# EAGLE library part CAN_SENSOR_V3 (library andereBauteile)
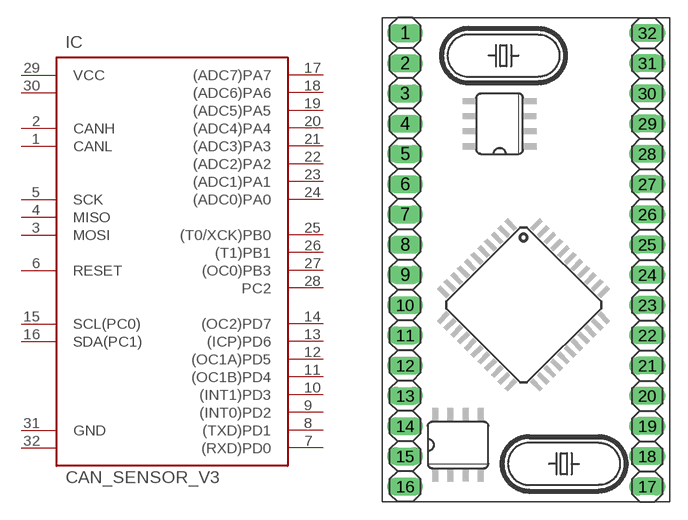
[diagram p40: symbol with the pads of CAN_SENSOR_V3; footprint CAN_SENSOR_V3]

Designator prefix IC

## CAN_SENSOR_V3  [CAN_SENSOR_V3]
1  CANL
2  CANH
3  MOSI  out
4  MISO  in
5  SCK  out
6  RESET
7  (RXD)PD0
8  (TXD)PD1
9  (INT0)PD2
10  (INT1)PD3
11  (OC1B)PD4
12  (OC1A)PD5
13  (ICP)PD6
14  (OC2)PD7
15  SCL(PC0)
16  SDA(PC1)
17  (ADC7)PA7
18  (ADC6)PA6
19  (ADC5)PA5
20  (ADC4)PA4
21  (ADC3)PA3
22  (ADC2)PA2
23  (ADC1)PA1
24  (ADC0)PA0
25  (T0/XCK)PB0
26  (T1)PB1
27  (OC0)PB3
28  PC2
29  VCC  pwr
30  VCC  pwr
31  GND  pwr
32  GND  pwr

## Footprint CAN_SENSOR_V3 (pad centres in mm)
drill 1.016 long: 1 -10.16,19.05; 2 -10.16,16.51; 3 -10.16,13.97; 4 -10.16,11.43; 5 -10.16,8.89; 6 -10.16,6.35; 7 -10.16,3.81; 8 -10.16,1.27; 9 -10.16,-1.27; 10 -10.16,-3.81; 11 -10.16,-6.35; 12 -10.16,-8.89; 13 -10.16,-11.43; 14 -10.16,-13.97; 15 -10.16,-16.51; 16 -10.16,-19.05; 17 10.16,-19.05; 18 10.16,-16.51; 19 10.16,-13.97; 20 10.16,-11.43; 21 10.16,-8.89; 22 10.16,-6.35; 23 10.16,-3.81; 24 10.16,-1.27; 25 10.16,1.27; 26 10.16,3.81; 27 10.16,6.35; 28 10.16,8.89; 29 10.16,11.43; 30 10.16,13.97; 31 10.16,16.51; 32 10.16,19.05